# EAGLE library part MD06S (library con-yamaichi)
YAMAICHI CONNECTOR
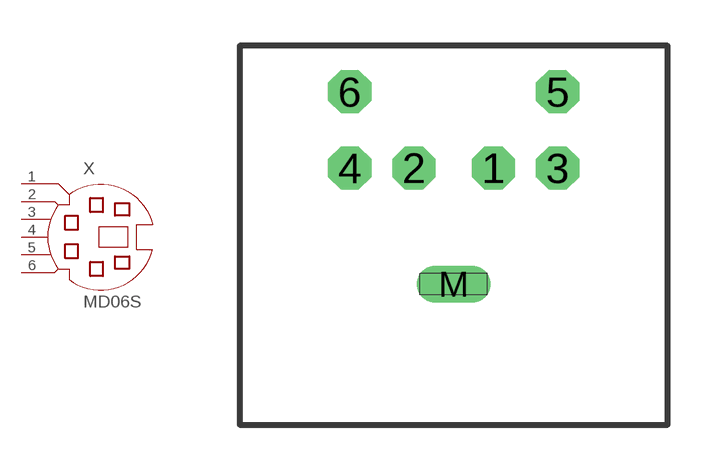
[diagram p1: symbol with the pads of MDIN06S; footprint MDIN06S]

Designator prefix X

## MD06S  [MDIN06S]
1  1  pas
2  2  pas
3  3  pas
4  4  pas
5  5  pas
6  6  pas

## Footprint MDIN06S (pad centres in mm)
Mini Din YAMAICHI CONNECTOR
drill 0.9 octagon: 1 1.3,8.5; 2 -1.3,8.5; 3 3.4,8.5; 4 -3.4,8.5; 5 3.4,11; 6 -3.4,11
drill 0.7 long: M 0,4.7